# EAGLE library part PCF8523TS/1,118 (library RTC)
IC RTC CLK/CALENDAR I2C 14-TSSOP Manufacturer's datasheet <https://www.nxp.com/docs/en/data-sheet/PCF8523.pdf>
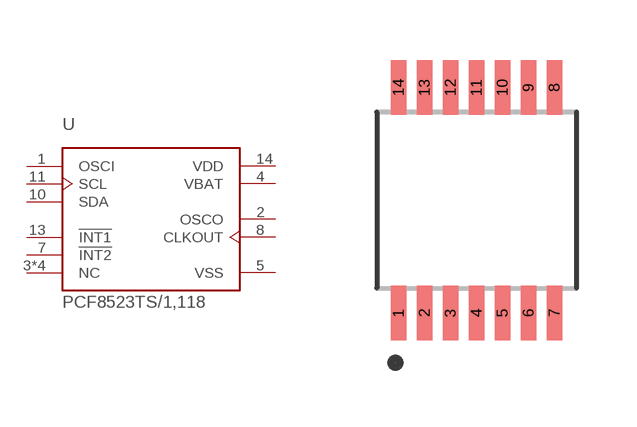
[diagram p9: symbol with the pads of PCF8523TS/1,118; footprint PCF8523TS/1,118]

Designator prefix U

## PCF8523TS/1,118 (CREATED_BY: PCBLayout.com; DIGIKEY_PN: 568-6649-1-ND; MANUFACTURER: NXP USA Inc.; MPN: PCF8523TS/1,118; PACKAGE: 14-TSSOP)  [PCF8523TS/1,118]
1  OSCI  in
2  OSCO  out
3  NC  pas
4  VBAT  pwr
5  VSS  pwr
6  NC  pas
7  !INT2
8  CLKOUT  out
9  NC  pas
10  SDA
11  SCL  in
12  NC  pas
13  !INT1
14  VDD  pwr

## Footprint PCF8523TS/1,118 (pad centres in mm)
smd 0.39 x 1.37: 1 -1.95,-2.82; 2 -1.3,-2.82; 3 -0.65,-2.82; 4 0,-2.82; 5 0.65,-2.82; 6 1.3,-2.82; 7 1.95,-2.82; 8 1.95,2.82; 9 1.3,2.82; 10 0.65,2.82; 11 0,2.82; 12 -0.65,2.82; 13 -1.3,2.82; 14 -1.95,2.82